# Altium integrated library MOS管.IntLib: 2 symbols
Pins are listed as number, name and electrical type; pins without a type are passive.

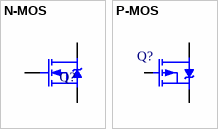
[diagram p0: symbols N-MOS to P-MOS]

## N-MOS
designator Q?
N沟道场效应管
footprint TO220A
footprint TO220B
footprint TO92A (92晶体管)
footprint TO92B (92晶体管)
footprint TO252 (252晶体管)
footprint SOT23
footprint SOT50P160X80-3N
footprint SOT523
pins: D, G, S

## P-MOS
designator Q?
P沟道场效应管
footprint TO263-3A
footprint TO263-3B
footprint SOT23
footprint TO252 (252晶体管)
pins: D, G, S